# Altium schematic symbol library MJ-3536N.SchLib: 1 symbol
Pins are listed as number, name and electrical type; pins without a type are passive.

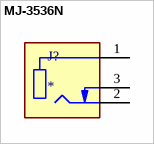
[diagram p0: symbol MJ-3536N]

## MJ-3536N
designator J?
MF: {'manufacturer': u'CUI Devices'}; MP: MJ-3536N; Package: None; Price: None; Value: *; Availability: Unavailable
footprint CUI_MJ-3536N
pins: 1, 2, 3